# Altium schematic symbol library TPS54331GDR.SCHLIB: 1 symbol
Pins are listed as number, name and electrical type; pins without a type are passive.

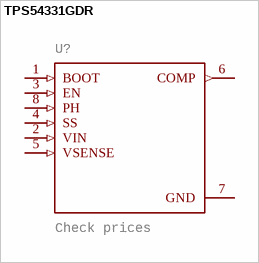
[diagram p0: symbol TPS54331GDR]

## TPS54331GDR
designator U?, comment Check prices
GateName_1: A; SymbolName_1: TPS54331GDR; MF: Texas Instruments; Description: 3.5V to 28V Input, 3A, 570kHz Step-Down Converter with Eco-mode 8-SOIC -40 to 150; LibraryName: TPS54331GDR; DeviceSetName: TPS54331GDR; Package: SOIC127P599X175-8N; Price: None; Availability: In Stock; Purchase-URL: https://pricing.snapeda.com/search/part/TPS54331GDR/?ref=eda; MP: TPS54331GDR; Package: SOIC-8 Texas Instruments
footprint SOIC127P599X175-8N
pins: 1 BOOT (in), 2 VIN (in), 3 EN (in), 4 SS (in), 5 VSENSE (in), 6 COMP (out), 7 GND (power), 8 PH (in)